# EAGLE library part CONNECTOR-14 (library HyTechDevices-ltc4421 components)
14 Pin Connector
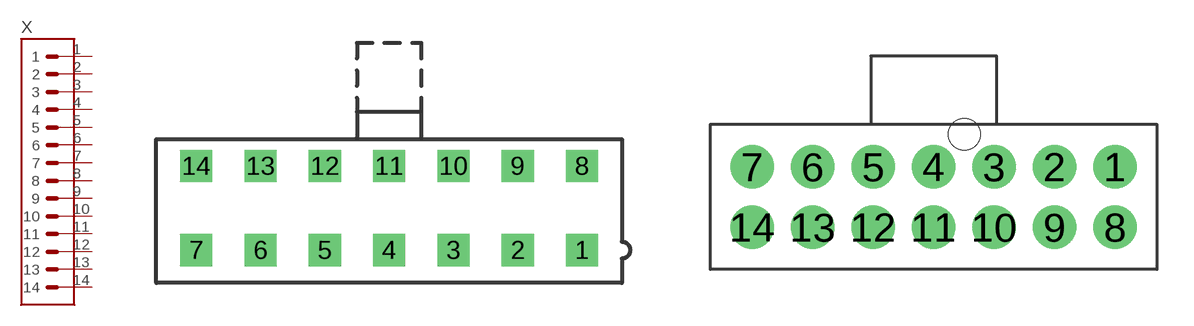
[diagram p16: symbol with the pads of MOLEX_MINIFIT_PTH_14; footprints MOLEX_MINIFIT_PTH_14, MOLEX_NANOFIT_PTH_14]

Designator prefix X

## CONNECTOR-14  [MOLEX_MINIFIT_PTH_14]
1  1  pas
2  2  pas
3  3  pas
4  4  pas
5  5  pas
6  6  pas
7  7  pas
8  8  pas
9  9  pas
10  10  pas
11  11  pas
12  12  pas
13  13  pas
14  14  pas

## CONNECTOR-14NANO-FIT_VERTICAL-14  [MOLEX_NANOFIT_PTH_14]
Pads as for MOLEX_MINIFIT_PTH_14

## Footprint MOLEX_MINIFIT_PTH_14 (pad centres in mm)
14 Pin Mini-Fit Vertical Header, Through Hole, Dual Row Part <https://www.molex.com/molex/products/part-detail/pcb_headers/0039288140> Footprint <https://www.molex.com/pdm_docs/sd/0039288140_sd.pdf>
drill 1.4 square: 1 12.6,-2.75; 2 8.4,-2.75; 3 4.2,-2.75; 4 0,-2.75; 5 -4.2,-2.75; 6 -8.4,-2.75; 7 -12.6,-2.75; 8 12.6,2.75; 9 8.4,2.75; 10 4.2,2.75; 11 0,2.75; 12 -4.2,2.75; 13 -8.4,2.75; 14 -12.6,2.75

## Footprint MOLEX_NANOFIT_PTH_14 (pad centres in mm)
14 Pin Nano-Fit™ Vertical Header, Through Hole, Dual Row Part <https://www.molex.com/molex/products/part-detail/pcb_headers/1053101214> Footprint <https://www.molex.com/pdm_docs/sd/1053101214_sd.pdf>
drill 1.2: 1 7.5,0; 2 5,0; 3 2.5,0; 4 0,0; 5 -2.5,0; 6 -5,0; 7 -7.5,0; 8 7.5,-2.5; 9 5,-2.5; 10 2.5,-2.5; 11 0,-2.5; 12 -2.5,-2.5; 13 -5,-2.5; 14 -7.5,-2.5
hole 1.3 at 1.27,1.34